# Altium schematic symbol library module.SchLib: 5 symbols
Pins are listed as number, name and electrical type; pins without a type are passive.

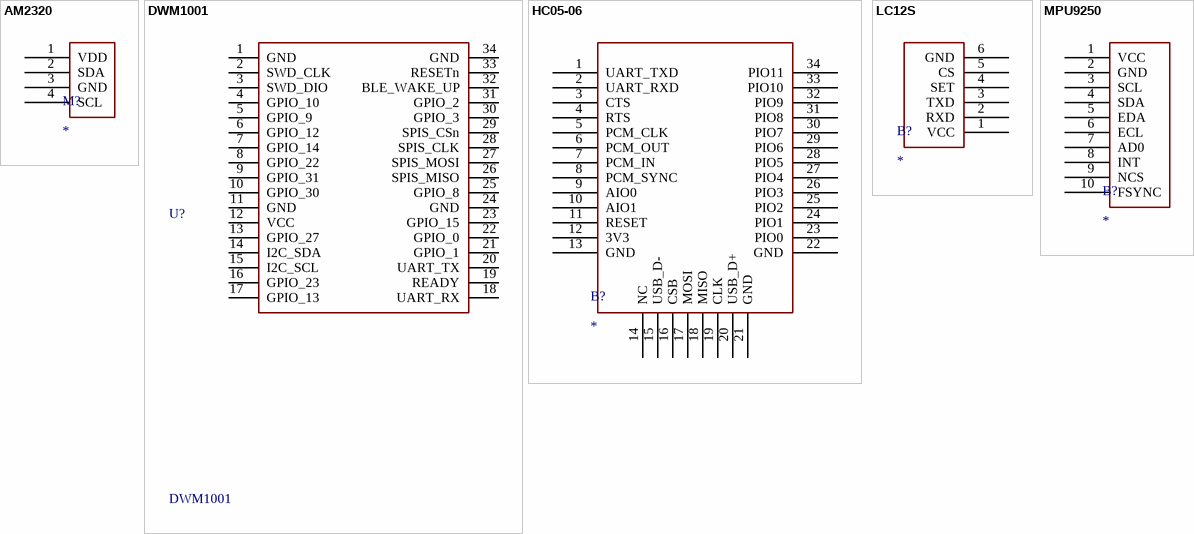
[diagram p0: symbols AM2320 to MPU9250]

## AM2320
designator M?
footprint AM2320
pins: 1 VDD, 2 SDA, 3 GND, 4 SCL

## DWM1001
designator U?
Local Supplier: x; Local Supplier Part Number: x; Local Supplier Link: x
footprint DWM1001 (DWM1001 MODULE)
pins: 1 GND, 2 SWD_CLK, 3 SWD_DIO, 4 GPIO_10, 5 GPIO_9, 6 GPIO_12, 7 GPIO_14, 8 GPIO_22, 9 GPIO_31, 10 GPIO_30, 11 GND, 12 VCC, 13 GPIO_27, 14 I2C_SDA, 15 I2C_SCL, 16 GPIO_23, 17 GPIO_13, 18 UART_RX, 19 READY, 20 UART_TX, 21 GPIO_1, 22 GPIO_0, 23 GPIO_15, 24 GND, 25 GPIO_8, 26 SPIS_MISO, 27 SPIS_MOSI, 28 SPIS_CLK, 29 SPIS_CSn, 30 GPIO_3, 31 GPIO_2, 32 BLE_WAKE_UP, 33 RESETn, 34 GND

## HC05-06
designator B?
footprint HC05-06
pins: 1 UART_TXD, 2 UART_RXD, 3 CTS, 4 RTS, 5 PCM_CLK, 6 PCM_OUT, 7 PCM_IN, 8 PCM_SYNC, 9 AIO0, 10 AIO1, 11 RESET, 12 3V3, 13 GND, 14 NC, 15 USB_D-, 16 CSB, 17 MOSI, 18 MISO, 19 CLK, 20 USB_D+, 21 GND, 22 GND, 23 PIO0, 24 PIO1, 25 PIO2, 26 PIO3, 27 PIO4, 28 PIO5, 29 PIO6, 30 PIO7, 31 PIO8, 32 PIO9, 33 PIO10, 34 PIO11

## LC12S
designator B?
footprint LC12S
pins: 1 VCC, 2 RXD, 3 TXD, 4 SET, 5 CS, 6 GND

## MPU9250
designator B?
footprint MPU9250 (JP8)
pins: 1 VCC, 2 GND, 3 SCL, 4 SDA, 5 EDA, 6 ECL, 7 AD0, 8 INT, 9 NCS, 10 FSYNC